# EAGLE library part HA4314BCBZ (library Intersil_By_element14_Batch_1)
4x1 Video Crosspoint Switch
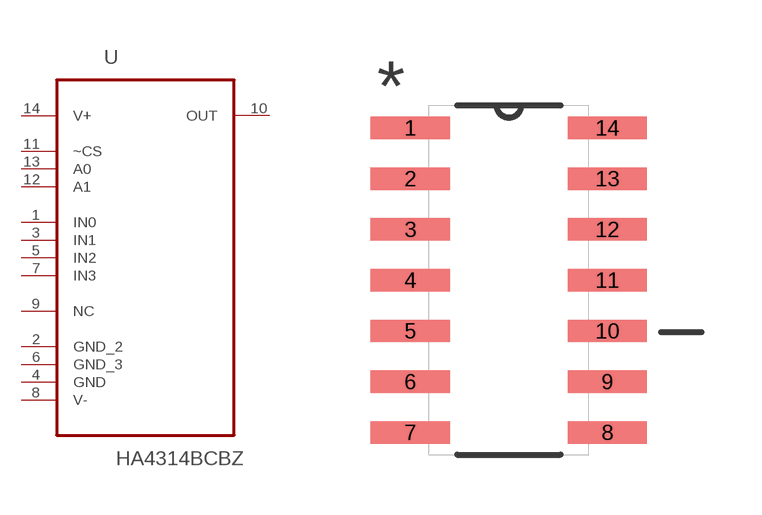
[diagram p95: symbol with the pads of SOIC127P600X175-14N; footprint SOIC127P600X175-14N]

Designator prefix U

## HA4314BCBZ (MPN: HA4314BCBZ; OC_FARNELL: 1562012; OC_NEWARK: 11J8709; PACKAGE: SOIC-14; SUPPLIER: INTERSIL)  [SOIC127P600X175-14N]
1  IN0  in
2  GND_2  pas
3  IN1  in
4  GND  pas
5  IN2  in
6  GND_3  pas
7  IN3  in
8  V-  pwr
9  NC  nc
10  OUT  out
11  ~CS  in
12  A1  in
13  A0  in
14  V+  pwr

## Footprint SOIC127P600X175-14N (pad centres in mm)
smd 1.981 x 0.559: 1 -2.464,3.81; 2 -2.464,2.54; 3 -2.464,1.27; 4 -2.464,0; 5 -2.464,-1.27; 6 -2.464,-2.54; 7 -2.464,-3.81; 8 2.464,-3.81; 9 2.464,-2.54; 10 2.464,-1.27; 11 2.464,0; 12 2.464,1.27; 13 2.464,2.54; 14 2.464,3.81